# EAGLE library part FT232RL (library FTDI)
http://datasheet.octopart.com/FT232RL-FTDI-datasheet-120501.pdf
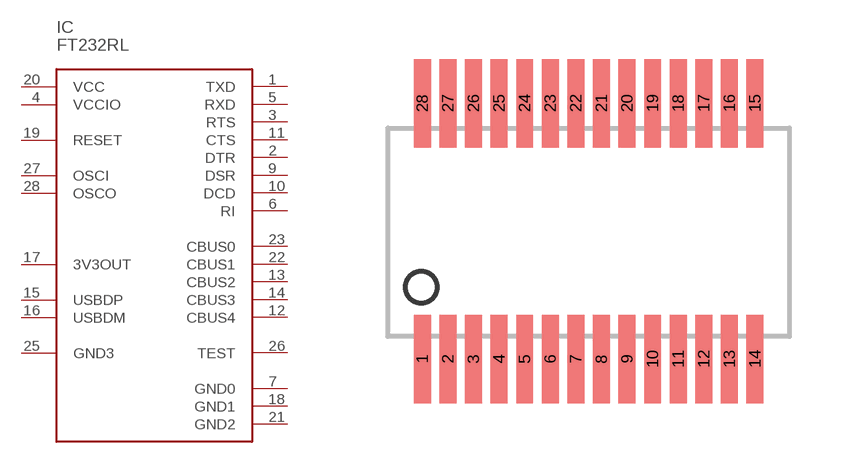
[diagram p0: symbol with the pads of SSOP-28; footprint SSOP-28]

Designator prefix IC

## FT232RL (PARTNO: FT232RL)  [SSOP-28]
1  TXD
2  DTR
3  RTS
4  VCCIO
5  RXD
6  RI
7  GND0  pwr
9  DSR
10  DCD
11  CTS
12  CBUS4
13  CBUS2
14  CBUS3
15  USBDP
16  USBDM
17  3V3OUT
18  GND1  pwr
19  RESET
20  VCC
21  GND2  pwr
22  CBUS1
23  CBUS0
25  GND3  pwr
26  TEST
27  OSCI
28  OSCO

## Footprint SSOP-28 (pad centres in mm)
http://datasheet.octopart.com/FT232RL-FTDI-datasheet-120501.pdf
smd 0.43 x 2.25: 1 -4.225,-3.225; 2 -3.575,-3.225; 3 -2.925,-3.225; 4 -2.275,-3.225; 5 -1.625,-3.225; 6 -0.975,-3.225; 7 -0.325,-3.225; 8 0.325,-3.225; 9 0.975,-3.225; 10 1.625,-3.225; 11 2.275,-3.225; 12 2.925,-3.225; 13 3.575,-3.225; 14 4.225,-3.225; 15 4.225,3.275; 16 3.575,3.275; 17 2.925,3.275; 18 2.275,3.275; 19 1.625,3.275; 20 0.975,3.275; 21 0.325,3.275; 22 -0.325,3.275; 23 -0.975,3.275; 24 -1.625,3.275; 25 -2.275,3.275; 26 -2.925,3.275; 27 -3.575,3.275; 28 -4.225,3.275